# Altium schematic symbol library Schlib1.SchLib: 30 symbols
Pins are listed as number, name and electrical type; pins without a type are passive.

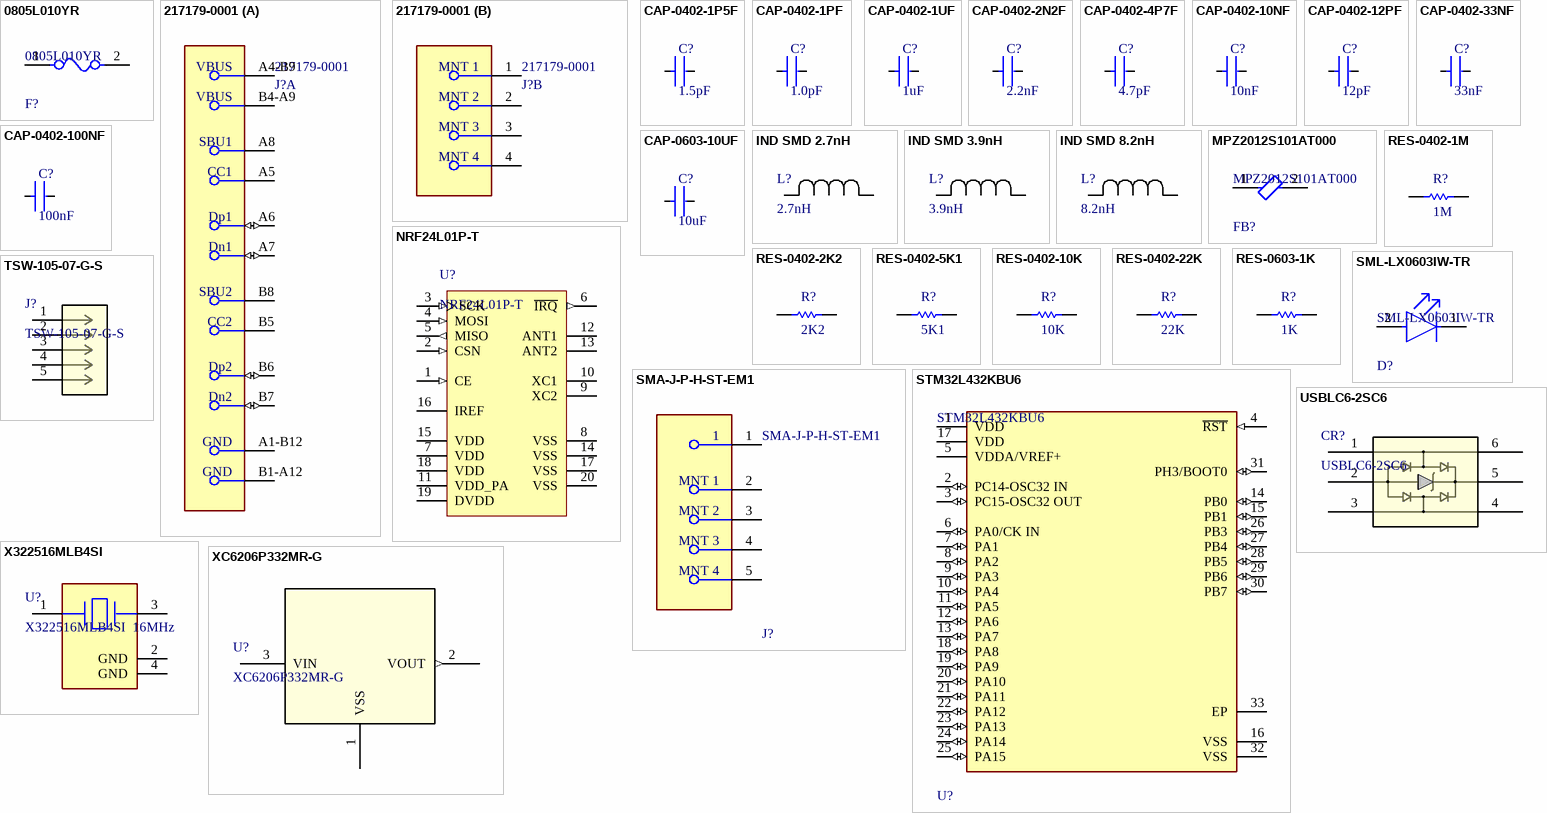
[diagram p0: symbols 0805L010YR to XC6206P332MR-G]

## 0805L010YR
designator F?
0805L010YR PTC Resettable Fuse 0.1A(hold) 0.3A(trip) 15VDC 100A 0.5W 1.5s 1Ohm SMD Solder Pad 0805 T/R; NexarPartId: 673855; Minimum Resistance Initial (Rmin): 1Ω; Maximum Resistance 1 Hour (R1max): 6Ω; Power Dissipation: 500mW; Working Voltage: 15V; Hold Current: 100mA; Trip Current: 300mA; Approvals: TUV, cULus; Min Operating Temperature: -40°C; Max Current Rating: 100A; Case Code (Imperial): 0805; Termination: SMD/SMT; Height: 1mm; Resistance: 6Ω; Case Code (Metric): 2012; Lifecycle Status: Production; Operating Supply Voltage: 15V; Mount: Surface Mount; Voltage Rating: 15V; RoHS: Compliant; Width: 1.5mm; Length: 2.2mm; Voltage Rating (DC): 15V; Time to Trip: 1.5s; Ambient Temperature Range High: 85°C; Max Power Dissipation: 500mW; Lead Free: Lead Free; Max Operating Temperature: 85°C; Current Rating: 100A; Terminal Material: Copper; Packaging: Cut Tape; REACH SVHC: No SVHC; Max Voltage Rating (DC): 15V; Case/Package: 0805; LCSC Part #: C207020
footprint FP-0805L010-MFG
pins: 1, 2

## 217179-0001
designator J?
CONN RCP USB2.0 TYP C 24P SMD RA; NexarPartId: 117190526; Gender: Receptacle; Number of Contacts: 16; Current Rating: 1.25A; Voltage Rating: 30V; Min Operating Temperature: -40°C; USB Standard: USB 2.0; Height: 3.36mm; Contact Material: Gold, Nickel; Max Operating Temperature: 85°C; LCSC Part #: C3197684
footprint FP-2171790001-MFG
part A pins: A1-B12 GND (power), A4-B9 VBUS (power), A5 CC1, A6 Dp1 (io), A7 Dn1 (io), A8 SBU1, B1-A12 GND (power), B4-A9 VBUS (power), B5 CC2, B6 Dp2 (io), B7 Dn2 (io), B8 SBU2
part B pins: 1 MNT 1, 2 MNT 2, 3 MNT 3 (power), 4 MNT 4 (power)

## CAP-0402-1P5F
designator C?, comment 1.5pF
Chip Capacitor, 1.5 pF; Capacitance: 1P5F; Case Size/Dimension: 0402; LCSC Part #: C76901
footprint CAPC1005X55N
pins: 1, 2

## CAP-0402-1PF
designator C?, comment 1.0pF
Chip Capacitor, 1.0 pF; Capacitance: 1pF; Case Size/Dimension: 0402; LCSC Part #: C76898
footprint CAPC1005X55N
pins: 1, 2

## CAP-0402-1UF
designator C?, comment 1uF
Chip Capacitor, 1 uF; Case Size/Dimension: 0402; Capacitance: 1uF; LCSC Part #: C52923
footprint CAPC1005X55N
pins: 1, 2

## CAP-0402-2N2F
designator C?, comment 2.2nF
Chip Capacitor, 2.2 nF; Capacitance: 2N2F; Case Size/Dimension: 0402; LCSC Part #: C2987940
footprint CAPC1005X55N
pins: 1, 2

## CAP-0402-4P7F
designator C?, comment 4.7pF
Chip Capacitor, 4.7 pF; Capacitance: 4P7F; Case Size/Dimension: 0402; LCSC Part #: C161327
footprint CAPC1005X55N
pins: 1, 2

## CAP-0402-10NF
designator C?, comment 10nF
Chip Capacitor, 10 nF; Case Size/Dimension: 0402; Capacitance: 10nF; LCSC Part #: C15195
footprint CAPC1005X55N
pins: 1, 2

## CAP-0402-12PF
designator C?, comment 12pF
Chip Capacitor, 12 pF; Case Size/Dimension: 0402; Capacitance: 12pF; LCSC Part #: C2235030
footprint CAPC1005X55N
pins: 1, 2

## CAP-0402-33NF
designator C?, comment 33nF
Chip Capacitor, 33 nF; Case Size/Dimension: 0402; Capacitance: 33nF; LCSC Part #: C126535
footprint CAPC1005X55N
pins: 1, 2

## CAP-0402-100NF
designator C?, comment 100nF
Chip Capacitor, 100 nF; Case Size/Dimension: 0402; Capacitance: 100nF; LCSC Part #: C1525
footprint CAPC1005X55N
pins: 1, 2

## CAP-0603-10UF
designator C?, comment 10uF
Chip Capacitor, 10 uF; Case Size/Dimension: 0603; Capacitance: 10uF; LCSC Part #: C22418930
footprint CAPC1608X90
pins: 1, 2

## IND SMD 2.7nH
designator L?, comment 2.7nH
Inductor SMD; Copyright: Copyright (C) 2026 Ultra Librarian. All rights reserved.; LCSC Part #: C77108
footprint IND_LQG15HS3N3S02D_MUR
pins: 1, 2

## IND SMD 3.9nH
designator L?, comment 3.9nH
Inductor SMD; Copyright: Copyright (C) 2026 Ultra Librarian. All rights reserved.; LCSC Part #: C77109
footprint IND_LQG15HS3N3S02D_MUR
pins: 1, 2

## IND SMD 8.2nH
designator L?, comment 8.2nH
Inductor SMD; Copyright: Copyright (C) 2026 Ultra Librarian. All rights reserved.; LCSC Part #: C98003
footprint IND_LQG15HS3N3S02D_MUR
pins: 1, 2

## MPZ2012S101AT000
designator FB?
FERRITE BEAD 100 OHM 0805 1LN; Impedance: 100R; DC Resistance (DCR): 20mR; Tolerance: 25%; Current Rating: 4A; Test Frequency: 100MHz; Case Code (Imperial): 0805; RoHS Compliant: Yes; REACH SVHC: No SVHC; Length: 0.079inch; Case/Package: 0805; Case Code (Metric): 2012; Mount: Surface Mount; Width: 0.049inch; Lead Free: Lead Free; Termination: SMD/SMT; Min Operating Temperature: -55°C; Package Quantity: 4000; Height: 0.041inch; Max Operating Temperature: 125°C; Weight: 0.000194oz; Max DC Current: 4A; Packaging: Tape and Reel; LCSC Part #: C15957
footprint FP-MPZ2012-IPC_A
footprint FP-MPZ2012-MFG
footprint FP-MPZ2012-IPC_C
footprint FP-MPZ2012-IPC_B
pins: 1, 2

## NRF24L01P-T
designator U?
Single Chip Transceiver, 2.4 GHz, 60 mW, 1.9 to 3.6 V, -40 to 85 degC, 20-Pin QFN, RoHS, Tray; Manufacturer: Nordic Semiconductor; Data Rate (Max): 2Mbps; Current - Transmitting: 7mA~11.3mA; Power - Output: 0dBm; Other Names: 1490-1019; Online Catalog: nRF24L01+; Current - Receiving: 12.6mA~13.5mA; For Use With: 1490-1002-ND-KITEVALUATIONNRF24L01P1568-1295-ND-SPARKFUNTRANSCEIVERBREAKOUT-1568-1296-ND-SPARKFUNTRANSCEIVERBREAKOUT-1471-1410-ND-DEVBOARDNRFSCLICKNRF24L01P-MODULE-PCB-ND-KITEVALNRF24L01+PCBANTENNANRF24L01P-MODULE-SMA-ND-KITEVALNRF24L01+SMACONNNRF24L01P-UPGRADE-ND-UPGRADE2PCB/1SMANRF24L01103990038-ND-DEVDUINOSENSORNODEV1.3103990053-ND-DEVDUINOSENSORNODEV2(ATMEGA103990074-ND-DEVDUINOSENSORNODE106990026-ND-ENERGYMONITORSHIELDV2113990088-ND-WIRELESSGATESHIELD113990095-ND-DEVDUINOSENSORNODEV3(ATMEGA106030001-ND-ENERGYMONITORSHIELD1597-1361-ND-DEVDUINOSENSORNODEV2.2(ATMEG105990030-ND-RGBWSTRIPWIRELESSSHIELDV1.0; Frequency: 2.4GHz; Design Resources: DevelopmentToolSelector; RF Family/Standard: GeneralISM>1GHZ; Serial Interfaces: SPI; Sensitivity: -94dBm; Voltage - Supply: 1.9V~3.6V; Modulation: GFSK; GPIO: -; Package Reference: QFN20; Memory Size: -; Category: RF/IFandRFID; Type: TxRxOnly; Standard Package: 490; Package / Case: 20-VFQFNExposedPad; Packaging: Tray; Series: -; Package Description: 20-Pin Quad Flat No-lead Package, Body 4 x 4 mm, Pitch 0.5 mm; Datasheet Version: Rev. 1.0, 09/2008; Protocol: -; Manufacturer URL: http://www.nordicsemi.com/eng/Products/; Operating Temperature: -40°C~85°C; Family: RFTransceiverICs; Datasheet URL: http://www.nordicsemi.com/eng/content/download/2726/34069/file/nRF24L01P_Product_Specification_1_0.pdf; Mounting Technology: SurfaceMount; LCSC Part #: C1526140
footprint NRSC-QFN-20_L (QFN, 20-Leads, Body 4x4mm, Pitch 0.5mm, Thermal Pad 2.6x2.6mm, IPC High Density)
footprint NRSC-QFN-20_M (QFN, 20-Leads, Body 4x4mm, Pitch 0.5mm, Thermal Pad 2.6x2.6mm, IPC Low Density)
footprint NRSC-QFN-20_N (QFN, 20-Leads, Body 4x4mm, Pitch 0.5mm, Thermal Pad 2.6x2.6mm, IPC Medium Density)
pins: 1 CE (in) "Chip Enable Activates RX or TX mode", 2 CSN (in) "SPI Chip Select", 3 SCK (in) "SPI Clock", 4 MOSI (in) "SPI Slave Data Input", 5 MISO (out) "SPI Slave Data Output, with tri-state option", 6 ~{IRQ} (out) "Maskable interrupt pin. Active low", 7 VDD (power) "Power Supply (+1.9V - +3.6V DC)", 8 VSS (power) "Ground (0V)", 9 XC2 "Crystal Pin 2", 10 XC1 "Crystal Pin 1", 11 VDD_PA (power) "Power Supply Output (+1.8V) for the internal nRF24L01+ Power Amplifier. Must be connected to ANT1 and ANT2 as shown in Figure 32.", 12 ANT1 "Antenna interface 1", 13 ANT2 "Antenna interface 2", 14 VSS (power) "Ground (0V)", 15 VDD (power) "Power Supply (+1.9V - +3.6V DC)", 16 IREF "Reference current. Connect a 22 kohm resistor to ground. See Figure 32.", 17 VSS (power) "Ground (0V)", 18 VDD (power) "Power Supply (+1.9V - +3.6V DC)", 19 DVDD (power) "Internal digital supply output for de-coupling purposes. See Figure 32.", 20 VSS (power) "Ground (0V)"

## RES-0402-1M
designator R?, comment 1M
RES 1MΩ ±1% 62.5mW 0402; Resistance: 1MR; Composition: Thin Film; Case/Package: 0402; LCSC Part #: C2906900
footprint RESC1005X37N
pins: 1, 2

## RES-0402-2K2
designator R?, comment 2K2
RES 2K2Ω ±1% 62.5mW 0402; Resistance: 2K2R; Composition: Thin Film; Case/Package: 0402; LCSC Part #: C2906920
footprint RESC1005X37N
pins: 1, 2

## RES-0402-5K1
designator R?, comment 5K1
RES 5K1Ω ±1% 62.5mW 0402; Resistance: 5K1R; Composition: Thin Film; Case/Package: 0402; LCSC Part #: C723526
footprint RESC1005X37N
pins: 1, 2

## RES-0402-10K
designator R?, comment 10K
RES 10kΩ ±1% 62.5mW 0402; Resistance: 10kR; Composition: Thin Film; Case/Package: 0402; LCSC Part #: C60490
footprint RESC1005X37N
pins: 1, 2

## RES-0402-22K
designator R?, comment 22K
RES 22kΩ ±1% 62.5mW 0402; Resistance: 22kR; Composition: Thin Film; Case/Package: 0402; LCSC Part #: C82868
footprint RESC1005X37N
pins: 1, 2

## RES-0603-1K
designator R?, comment 1K
RES 1KΩ ±1% 62.5mW 0603; Resistance: 1KR; Composition: Thin Film; Case/Package: 0603; LCSC Part #: C2907002
footprint RESC1608X55N
pins: 1, 2

## SMA-J-P-H-ST-EM1
designator J?
CONN SMA JACK STR 50OHM EDGE MNT; Dielectric Material: PTFE; Center Contact Plating: Gold; Max Frequency: 6GHz; Body Material: Brass; Voltage Rating: 335V; Impedance: 50R; Package Quantity: 1; Case/Package: SMA; Max Operating Temperature: 125°C; Fastening Type: Threaded; Orientation: Straight; Depth: 13.33mm; RoHS Compliant: Yes; Length: 6.35mm; Insulation Material: Polytetrafluoroethylene; Termination: Solder; Min Operating Temperature: -65°C; Housing Color: Gold; Contact Plating: Gold; Contact Material: Copper; Connector Type: SMA; Mount: Edge; Series: SMA; Packaging: Tray; Body Plating: Gold; Radiation Hardening: No; LCSC Part #: C5199907
footprint FP-SMA-J-P-H-ST-EM1-MFG
pins: 1, 2 MNT 1, 3 MNT 2, 4 MNT 3, 5 MNT 4

## SML-LX0603IW-TR
designator D?
LED RED DIFFUSED SMD; Luminous Intensity: 14mcd; Test Current: 20mA; Viewing Angle: 160°; Approvals: UL; Forward Voltage: 2V; Power Dissipation: 50mW; Dominant Wavelength: 635nm; Number of LEDs: 1; Lens Color: White; Height: 0.6mm; RoHS Compliant: Yes; Lead Free: Lead Free; Number of Pins: 2; Packaging: Tape and Reel; Case/Package: 0603; Length: 1.6mm; Color: Red; Max Operating Temperature: 85°C; Illumination Color: Red; Case Code (Metric): 1608; Diameter: 0.061inch; Min Operating Temperature: -25°C; Lens Style: Diffused; Mount: Surface Mount; Width: 0.8mm; Case Code (Imperial): 0603; Lens Transparency: Diffused; Wavelength: 635nm; Package Quantity: 1; Forward Current: 20mA; LCSC Part #: C5354817
footprint FP-SML-LX0603IW-TR-MFG
pins: 1 C, 2 A

## STM32L432KBU6
designator U?
IC MCU 32BIT 128KB FLASH 32QFPN; Manufacturer: STMicroelectronics; Memory Size: 128KBytes; Number Of I/Os: 26; Max Supply Voltage: 3.6V; Core Architecture: ARM Cortex-M4; Number Of A/D Converters: 1; Number Of Timers/Counters: 8; Min Supply Voltage: 1.62V; Interface: I2C,SPI,UART,USART,USB,IrDA; Number Of Spi Channels: 2; Frequency: 80MHz; Max Junction Temp: +105°C; Number Of Adc Channels: 10; Ram Size: 64KBytes; Data Bus Width: 32bits; Ambient Temperature Range High: +85°C; Device Class L2: Embedded Processors and Controllers; Temperature: -40°C to +85°C; Category: IC; ComponentLink2URL: https://www.st.com/resource/en/datasheet/stm32l432kb.pdf; Device Class L1: Integrated Circuits (ICs); ComponentLink2Description: Datasheet; Memory Type: FLASH; Ipc Land Pattern Name: QFN50P500X500X55-32; Temperature Range Low: -40°C; Height: 0.6mm; Digikey Description: IC MCU 32BIT 128KB FLASH 32QFPN; Temperature Range High: +85°C; Device Class L3: Microcontrollers; Lead Free: Yes; RoHS: TRUE; Octopart: https://octopart.com/stm32l432kbu6-stmicroelectronics-74568735; Manufacturer Part Number: STM32L432KBU6; Number Of Uart Channels: 1; Ambient Temperature Range Low: -40°C; Package: UFQFPN32-A0B8; Number Of I2C Channels: 2; Number Of Cores: 1; Automotive: No; LCSC Part #: C94784
footprint FP-UFQFPN32-A0B8-IPC_B
footprint FP-UFQFPN32-A0B8-IPC_A
footprint FP-UFQFPN32-A0B8-IPC_C
footprint FP-UFQFPN32-A0B8-MFG
pins: 1 VDD (power), 2 PC14-OSC32 IN (io), 3 PC15-OSC32 OUT (io), 4 ~{RST} (in), 5 VDDA/VREF+ (power), 6 PA0/CK IN (io), 7 PA1 (io), 8 PA2 (io), 9 PA3 (io), 10 PA4 (io), 11 PA5 (io), 12 PA6 (io), 13 PA7 (io), 14 PB0 (io), 15 PB1 (io), 16 VSS (power), 17 VDD (power), 18 PA8 (io), 19 PA9 (io), 20 PA10 (io), 21 PA11 (io), 22 PA12 (io), 23 PA13 (io), 24 PA14 (io), 25 PA15 (io), 26 PB3 (io), 27 PB4 (io), 28 PB5 (io), 29 PB6 (io), 30 PB7 (io), 31 PH3/BOOT0 (io), 32 VSS (power), 33 EP (power)

## TSW-105-07-G-S
designator J?
Conn Unshrouded Header HDR 5 POS 2.54mm Solder ST Top Entry Thru-Hole Bag; Manufacturer_Name: Samtec Inc; Copyright: Copyright (C) 2025 Ultra Librarian. All rights reserved.; Manufacturer_Part_Number: TSW-105-07-G-S; RefDes: RefDes; Type: Type; LCSC Part #: C5993812
footprint CON5_1X5_TU_TSW
pins: 1, 2, 3, 4, 5

## USBLC6-2SC6
designator CR?
ESD Protection for USB 2.0 High Speed; Manufacturer_Name: STMicroelectronics; Copyright: Copyright (C) 2025 Ultra Librarian. All rights reserved.; Manufacturer_Part_Number: USBLC6-2SC6; RefDes: RefDes; LCSC Part #: C5261088
footprint SOT23-6L_STM
pins: 1, 2, 3, 4, 5, 6

## X322516MLB4SI
designator U?, comment X322516MLB4SI  16MHz
CRYSTAL 16MHz 9pF SMD; Manufacturer_Name: Shenzhen Yang Xing Technology; Copyright: Copyright (C) 2025 Ultra Librarian. All rights reserved.; Manufacturer_Part_Number: X322516MLB4SI; RefDes: RefDes; Type: Type; LCSC Part #: C13738
footprint CHIP_X32B4SI_SYX
pins: 1, 2 GND (power), 3, 4 GND (power)

## XC6206P332MR-G
designator U?
Low ESR Cap. Compatible Positive Voltage Regulators; Manufacturer_Name: Torex Semiconductor; Copyright: Copyright (C) 2026 Ultra Librarian. All rights reserved.; Manufacturer_Part_Number: XC6206P332MR-G; RefDes: RefDes; Type: Type; LCSC Part #: C5446
footprint SOT-23_TOR
pins: 1 VSS (power), 2 VOUT (out), 3 VIN (power)